# Altium schematic symbol library Analog Switches.SchLib: 1 symbol
Pins are listed as number, name and electrical type; pins without a type are passive.

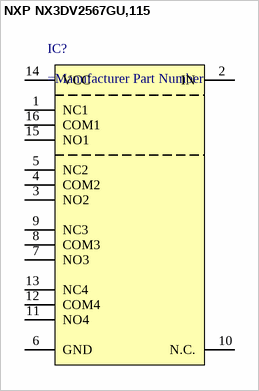
[diagram p0: symbol NXP NX3DV2567GU,115]

## NXP NX3DV2567GU,115
designator IC?
The NX3DV2567 is a four-pole double-throw analog switch (4PDT) optimized for switching WLAN-SIM supply, data and control signals.
footprint NXP XQFN16 (plastic, extremely thin quad flat package; no leads;  16 terminals; body 1.80 x 2.60 x 0.50 mm)
pins: 1 NC1, 2 IN, 3 NO2, 4 COM2, 5 NC2, 6 GND, 7 NO3, 8 COM3, 9 NC3, 10 N.C., 11 NO4, 12 COM4, 13 NC4, 14 VCC, 15 NO1, 16 COM1